# Altium schematic symbol library JMC_10Pin.SchLib: 1 symbol
Pins are listed as number, name and electrical type; pins without a type are passive.

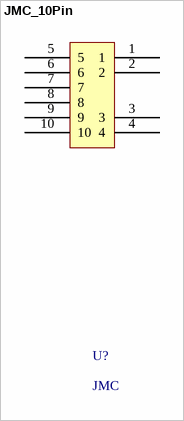
[diagram p0: symbol JMC_10Pin]

## JMC_10Pin
designator U?, comment JMC
江铃车窗端子
pins: 1, 2, 3, 4, 5, 6, 7, 8, 9, 10